# Altium footprint library 集成IC.PcbLib: 32 footprints (part 2 of 2)
Each footprint in its own frame and in the unit in brackets; x right, y up, seen from the top. Pads: shape width x height; smd on the part's side, far side on the other; paste and mask are expansions set on the pad; w line width, h text height; cw(c..) or ccw(c..) is an arc to the next point about the centre after c.
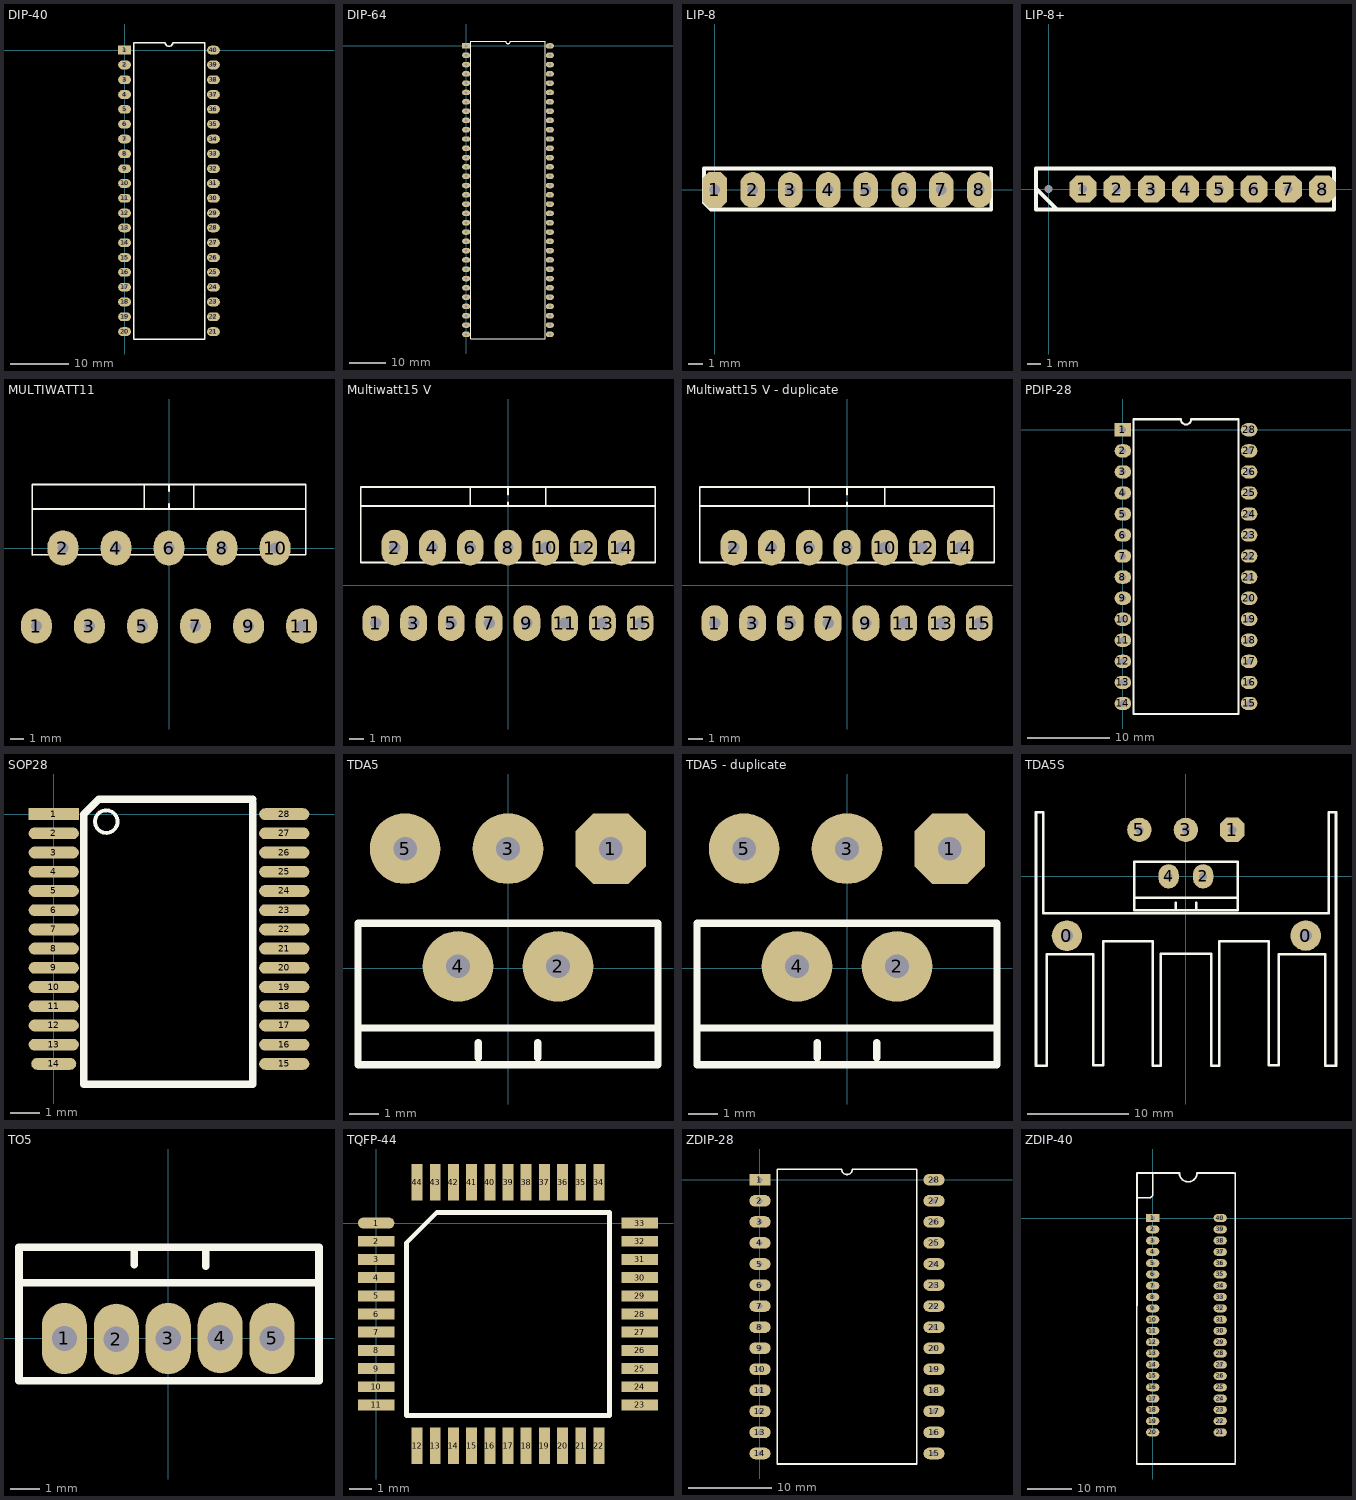
[diagram p1: the footprints below, top view; thin cyan lines are the x and y axes]

## DIP-40 [mm]
pads (40):
  rect 2.2x1.5 hole 0.7: 1(0,0)
  oval 2.2x1.5 hole 0.7: 2(0,-2.54) 3(0,-5.08) 4(0,-7.62) 5(0,-10.16) 6(0,-12.7) 7(0,-15.24) 8(0,-17.78) 9(0,-20.32) 10(0,-22.86) 11(0,-25.4) 12(0,-27.94) 13(0,-30.48) 14(0,-33.02) 15(0,-35.56) 16(0,-38.1) 17(0,-40.64) 18(0,-43.18) 19(0,-45.72) 20(0,-48.26) 21(15.24,-48.26) 22(15.24,-45.72) 23(15.24,-43.18) 24(15.24,-40.64) 25(15.24,-38.1) 26(15.24,-35.56) 27(15.24,-33.02) 28(15.24,-30.48) 29(15.24,-27.94) 30(15.24,-25.4) 31(15.24,-22.86) 32(15.24,-20.32) 33(15.24,-17.78) 34(15.24,-15.24) 35(15.24,-12.7) 36(15.24,-10.16) 37(15.24,-7.62) 38(15.24,-5.08) 39(15.24,-2.54) 40(15.24,0)
Top Overlay:
  lines w0.254: 1.549,-49.53 1.549,1.27 6.985,1.27 ccw(c7.62,1.27) 8.255,1.27 13.741,1.27 13.741,-49.53 1.549,-49.53

## DIP-64 [mm]
pads (64):
  rect 2.2x1.5 hole 0.8: 1(0,0)
  oval 2.2x1.5 hole 0.8: 2(0,-2.54) 3(0,-5.08) 4(0,-7.62) 5(0,-10.16) 6(0,-12.7) 7(0,-15.24) 8(0,-17.78) 9(0,-20.32) 10(0,-22.86) 11(0,-25.4) 12(0,-27.94) 13(0,-30.48) 14(0,-33.02) 15(0,-35.56) 16(0,-38.1) 17(0,-40.64) 18(0,-43.18) 19(0,-45.72) 20(0,-48.26) 21(0,-50.8) 22(0,-53.34) 23(0,-55.88) 24(0,-58.42) 25(0,-60.96) 26(0,-63.5) 27(0,-66.04) 28(0,-68.58) 29(0,-71.12) 30(0,-73.66) 31(0,-76.2) 32(0,-78.74) 33(22.86,-78.74) 34(22.86,-76.2) 35(22.86,-73.66) 36(22.86,-71.12) 37(22.86,-68.58) 38(22.86,-66.04) 39(22.86,-63.5) 40(22.86,-60.96) 41(22.86,-58.42) 42(22.86,-55.88) 43(22.86,-53.34) 44(22.86,-50.8) 45(22.86,-48.26) 46(22.86,-45.72) 47(22.86,-43.18) 48(22.86,-40.64) 49(22.86,-38.1) 50(22.86,-35.56) 51(22.86,-33.02) 52(22.86,-30.48) 53(22.86,-27.94) 54(22.86,-25.4) 55(22.86,-22.86) 56(22.86,-20.32) 57(22.86,-17.78) 58(22.86,-15.24) 59(22.86,-12.7) 60(22.86,-10.16) 61(22.86,-7.62) 62(22.86,-5.08) 63(22.86,-2.54) 64(22.86,0)
Top Overlay:
  lines w0.254: 1.27,-80.01 1.27,1.27 10.795,1.27 ccw(c11.43,1.27) 12.065,1.27 21.59,1.27 21.59,-80.01 1.27,-80.01

## LIP-8 [mm]
pads (8):
  oct 1.65x2.4 hole 0.7: 1(0,0)
  oval 1.65x2.4 hole 0.7: 2(2.54,0) 3(5.08,0) 4(7.62,0) 5(10.16,0) 6(12.7,0) 7(15.24,0) 8(17.78,0)
Top Overlay:
  lines w0.254: -0.737,-0.864 -0.279,-1.321 18.593,-1.321 18.593,1.448 -0.737,1.448 -0.737,-0.864

## LIP-8+ [mm] "KA2184"
pads (9):
  oct 0x0 hole 0.6: 0(0,0)
  oct 2x2 hole 0.6: 1(2.54,0) 2(5.08,0) 3(7.62,0) 4(10.16,0) 5(12.7,0) 6(15.24,0) 7(17.78,0) 8(20.32,0)
Top Overlay:
  lines w0.3: -0.94,0.025 0.61,-1.524 ; -0.94,-1.524 -0.94,1.524 21.158,1.524 21.158,-1.524 -0.94,-1.524

## MULTIWATT11 [mm]
pads (11):
  oval 2.2x2.5 hole 0.8: 1(-9.5,-5.588) 2(-7.6,0) 3(-5.7,-5.588) 4(-3.8,0) 5(-1.9,-5.588) 6(0,0) 7(1.9,-5.588) 8(3.8,0) 9(5.7,-5.588) 10(7.6,0) 11(9.5,-5.588)
Top Overlay:
  lines w0.127: -9.8,2.794 9.8,2.794 ; -1.778,2.794 -1.778,4.55 ; 0,2.794 0,3.175 ; 0,4.064 0,4.55 ; 1.778,2.794 1.778,4.55 ; 0,4.55 -9.8,4.55 -9.8,-0.508 9.8,-0.487 9.8,4.55 0,4.55

## Multiwatt15 V [mm]
pads (15):
  oval 1.8x2.4 hole 0.762: 1(-8.89,-2.54) 2(-7.62,2.54) 3(-6.35,-2.54) 4(-5.08,2.54) 5(-3.81,-2.54) 6(-2.54,2.54) 7(-1.27,-2.54) 8(0,2.54) 9(1.27,-2.54) 10(2.54,2.54) 11(3.81,-2.54) 12(5.08,2.54) 13(6.35,-2.54) 14(7.62,2.54)
  oval 1.8x2.4 hole 0.72: 15(8.89,-2.54)
Top Overlay:
  lines w0.127: -9.906,5.334 9.906,5.334 ; -2.54,5.334 -2.54,6.604 ; 0,5.334 0,5.588 ; 0,6.096 0,6.604 ; 2.54,5.334 2.54,6.604 ; -9.906,1.524 9.906,1.524 9.906,2.54 9.906,6.604 -9.906,6.604 -9.906,4.064 -9.906,1.524

## Multiwatt15 V - duplicate [mm]
pads (15):
  oval 1.8x2.4 hole 0.762: 1(-8.89,-2.54) 2(-7.62,2.54) 3(-6.35,-2.54) 4(-5.08,2.54) 5(-3.81,-2.54) 6(-2.54,2.54) 7(-1.27,-2.54) 8(0,2.54) 9(1.27,-2.54) 10(2.54,2.54) 11(3.81,-2.54) 12(5.08,2.54) 13(6.35,-2.54) 14(7.62,2.54)
  oval 1.8x2.4 hole 0.72: 15(8.89,-2.54)
Top Overlay:
  lines w0.127: -9.906,5.334 9.906,5.334 ; -2.54,5.334 -2.54,6.604 ; 0,5.334 0,5.588 ; 0,6.096 0,6.604 ; 2.54,5.334 2.54,6.604 ; -9.906,1.524 9.906,1.524 9.906,2.54 9.906,6.604 -9.906,6.604 -9.906,4.064 -9.906,1.524

## PDIP-28 [mm]
pads (28):
  rect 2x1.6 hole 0.8: 1(0,0)
  oval 2x1.6 hole 0.8: 2(0,-2.54) 3(0,-5.08) 4(0,-7.62) 5(0,-10.16) 6(0,-12.7) 7(0,-15.24) 8(0,-17.78) 9(0,-20.32) 10(0,-22.86) 11(0,-25.4) 12(0,-27.94) 13(0,-30.48) 14(0,-33.02) 15(15.24,-33.02) 16(15.24,-30.48) 17(15.24,-27.94) 18(15.24,-25.4) 19(15.24,-22.86) 20(15.24,-20.32) 21(15.24,-17.78) 22(15.24,-15.24) 23(15.24,-12.7) 24(15.24,-10.16) 25(15.24,-7.62) 26(15.24,-5.08) 27(15.24,-2.54) 28(15.24,0)
Top Overlay:
  lines w0.254: 1.27,-34.29 13.97,-34.29 13.97,1.27 8.255,1.27 cw(c7.62,1.27) 6.985,1.27 1.27,1.27 1.27,-34.29

## SOP28 [mm]
pads (28):
  rect 1.7x0.4 smd: 1(0,0)
  oval 1.7x0.4 smd: 2(0,-0.65) 3(0,-1.3) 4(0,-1.95) 5(0,-2.6) 6(0,-3.25) 7(0,-3.9) 8(0,-4.55) 9(0,-5.2) 10(0,-5.85) 11(0,-6.5) 12(0,-7.15) 13(0,-7.8) 15(7.8,-8.45) 16(7.8,-7.8) 17(7.8,-7.15) 18(7.8,-6.5) 19(7.8,-5.85) 20(7.8,-5.2) 21(7.8,-4.55) 22(7.8,-3.9) 23(7.8,-3.25) 24(7.8,-2.6) 25(7.8,-1.95) 26(7.8,-1.3) 27(7.8,-0.65) 28(7.8,0)
  oval 1.524x0.4 smd: 14(0,-8.45)
Top Overlay:
  circle w0.127: c1.778,-0.254 r0.381
  lines w0.254: 6.731,0.381 6.731,-9.144 1.016,-9.144 1.016,0 1.524,0.508 6.731,0.508

## TDA5 [mm]
pads (5):
  oct 2.4x2.4 hole 0.8: 1(3.5,4.064)
  round 2.4 hole 0.8: 2(1.7,0.064) 3(0,4.064) 4(-1.7,0.064) 5(-3.5,4.064)
Top Overlay:
  lines w0.254: -5.1,-2.032 -1.016,-2.032 5.1,-2.032 ; -1.016,-3.048 -1.016,-2.54 ; 1.016,-3.048 1.016,-2.54 ; -5.1,-3.276 -5.1,1.524 5.1,1.524 5.1,-3.276 -5.1,-3.276

## TDA5 - duplicate [mm]
pads (5):
  oct 2.4x2.4 hole 0.8: 1(3.5,4.064)
  round 2.4 hole 0.8: 2(1.7,0.064) 3(0,4.064) 4(-1.7,0.064) 5(-3.5,4.064)
Top Overlay:
  lines w0.254: -5.1,-2.032 -1.016,-2.032 5.1,-2.032 ; -1.016,-3.048 -1.016,-2.54 ; 1.016,-3.048 1.016,-2.54 ; -5.1,-3.276 5.1,-3.276 5.1,1.524 -5.1,1.524 -5.1,-3.276

## TDA5S [mm]
pads (7):
  round 3 hole 1.2: 0(-11.7,-5.85) 0(11.8,-5.825)
  oct 2.4x2.4 hole 0.8: 1(4.572,4.572)
  oval 2x2.4 hole 0.8: 2(1.7,0) 4(-1.7,0)
  round 2.4 hole 0.8: 3(0,4.572) 5(-4.572,4.572)
Top Overlay:
  lines w0.254: -5.1,-2.096 -1.016,-2.096 5.1,-2.096 ; -1.016,-3.112 -1.016,-2.604 ; 1.016,-3.112 1.016,-2.604 ; -14.75,-18.65 -13.675,-18.65 -13.675,-7.65 -9.125,-7.65 -9.125,-18.6 -8.125,-18.6 -8.125,-6.4 -3.25,-6.4 -3.25,-18.625 -2.475,-18.625 -2.475,-7.625 2.5,-7.625 2.5,-18.625 3.275,-18.625 3.275,-6.4 8.15,-6.4 8.15,-18.6 9.15,-18.6 9.15,-7.65 13.7,-7.65 13.7,-18.65 14.775,-18.65 14.775,6.325 14.05,6.325 14.05,-3.625 0.05,-3.625 -14.025,-3.625 -14.025,6.325 -14.75,6.325 -14.75,-18.65 ; -5.1,-3.34 -5.1,1.46 5.1,1.46 5.1,-3.34 -5.1,-3.34

## TO5 [mm]
pads (5):
  oval 1.52x2.4 hole 0.85: 1(-3.5,0) 2(-1.75,-0.025) 3(0,0) 4(1.75,0.025) 5(3.5,0)
Top Overlay:
  lines w0.254: -5.029,-0.94 -5.029,3.073 5.08,3.073 5.08,-1.422 -1.88,-1.422 -5.029,-1.422 -5.029,0.229 ; -5.029,1.88 5.029,1.88 ; -1.143,2.489 -1.143,3.073 ; 1.27,2.438 1.27,3.073

## TQFP-44 [mm]
pads (44):
  oval 1.6x0.48 smd: 1(0,0)
  rect 1.6x0.48 smd: 2(0,-0.8) 3(0,-1.6) 4(0,-2.4) 5(0,-3.2) 6(0,-4) 7(0,-4.8) 8(0,-5.6) 9(0,-6.4) 10(0,-7.2) 11(0,-8) 23(11.6,-8) 24(11.6,-7.2) 25(11.6,-6.4) 26(11.6,-5.6) 27(11.6,-4.8) 28(11.6,-4) 29(11.6,-3.2) 30(11.6,-2.4) 31(11.6,-1.6) 32(11.6,-0.8) 33(11.6,0)
  rect 0.48x1.6 smd: 12(1.8,-9.8) 13(2.6,-9.8) 14(3.4,-9.8) 15(4.2,-9.8) 16(5,-9.8) 17(5.8,-9.8) 18(6.6,-9.8) 19(7.4,-9.8) 20(8.2,-9.8) 21(9,-9.8) 22(9.8,-9.8) 34(9.8,1.8) 35(9,1.8) 36(8.2,1.8) 37(7.4,1.8) 38(6.6,1.8) 39(5.8,1.8) 40(5,1.8) 41(4.2,1.8) 42(3.4,1.8) 43(2.6,1.8) 44(1.8,1.8)
Top Overlay:
  lines w0.2: 1.335,-8.465 10.265,-8.465 10.265,0.465 2.67,0.465 1.335,-0.87 1.335,-8.465

## ZDIP-28 [mm]
pads (28):
  rect 2.54x1.4 hole 0.6: 1(0,0)
  oval 2.54x1.4 hole 0.6: 2(0,-2.54) 3(0,-5.08) 4(0,-7.62) 5(0,-10.16) 6(0,-12.7) 7(0,-15.24) 8(0,-17.78) 9(0,-20.32) 10(0,-22.86) 11(0,-25.4) 12(0,-27.94) 13(0,-30.48) 14(0,-33.02) 15(21,-33.02) 16(21,-30.48) 17(21,-27.94) 18(21,-25.4) 19(21,-22.86) 20(21,-20.32) 21(21,-17.78) 22(21,-15.24) 23(21,-12.7) 24(21,-10.16) 25(21,-7.62) 26(21,-5.08) 27(21,-2.54) 28(21,0)
Top Overlay:
  lines w0.2: 2.105,-34.29 2.105,1.27 9.865,1.27 ccw(c10.5,1.27) 11.135,1.27 18.895,1.27 18.895,-34.29 2.105,-34.29

## ZDIP-40 [mm]
pads (40):
  rect 3x1.8 hole 1: 1(0,0)
  oval 3x1.8 hole 1: 2(0,-2.54) 3(0,-5.08) 4(0,-7.62) 5(0,-10.16) 6(0,-12.7) 7(0,-15.24) 8(0,-17.78) 9(0,-20.32) 10(0,-22.86) 11(0,-25.4) 12(0,-27.94) 13(0,-30.48) 14(0,-33.02) 15(0,-35.56) 16(0,-38.1) 17(0,-40.64) 18(0,-43.18) 19(0,-45.72) 20(0,-48.26) 21(15.2,-48.26) 22(15.2,-45.72) 23(15.2,-43.18) 24(15.2,-40.64) 25(15.2,-38.1) 26(15.2,-35.56) 27(15.2,-33.02) 28(15.2,-30.48) 29(15.2,-27.94) 30(15.2,-25.4) 31(15.2,-22.86) 32(15.2,-20.32) 33(15.2,-17.78) 34(15.2,-15.24) 35(15.2,-12.7) 36(15.2,-10.16) 37(15.2,-7.62) 38(15.2,-5.08) 39(15.2,-2.54) 40(15.2,0)
Top Overlay:
  lines w0.4: -3.596,-55.332 -3.596,-49.784 -3.556,10.16 6.096,10.16 ; -3.556,-55.372 18.6,-55.372 ; -3.556,4.572 -0.508,4.572 0,5.08 0,10.16 ; 6.001,10.16 ccw(c8.001,10.16) 10.001,10.16 ; 10.16,10.16 18.288,10.16 ; 18.6,-55.06 18.6,-49.784 18.6,10.16